# Altium footprint library STM32F4DISCOHEADER.PcbLib: 1 footprints
Each footprint in its own frame and in the unit in brackets; x right, y up, seen from the top. Pads: shape width x height; smd on the part's side, far side on the other; paste and mask are expansions set on the pad; w line width, h text height; cw(c..) or ccw(c..) is an arc to the next point about the centre after c.
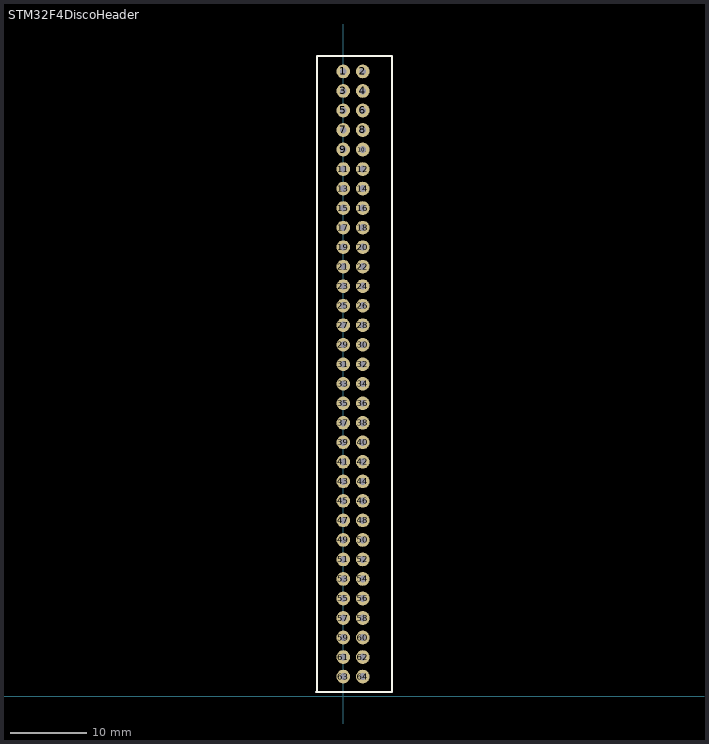
[diagram p0: the footprint, top view; thin cyan lines are the x and y axes]

## STM32F4DiscoHeader [mil]
pads (64):
  round 70 hole 35.4: 1(0,3200) 2(100,3200) 3(0,3100) 4(100,3100) 5(0,3000) 6(100,3000) 7(0,2900) 8(100,2900) 9(0,2800) 10.(100,2800) 11(0,2700) 12(100,2700) 13(0,2600) 14(100,2600) 15(0,2500) 16(100,2500) 17(0,2400) 18(100,2400) 19(0,2300) 20(100,2300) 21(0,2200) 22(100,2200) 23(0,2100) 24(100,2100) 25(0,2000) 26(100,2000) 27(0,1900) 28(100,1900) 29(0,1800) 30(100,1800) 31(0,1700) 32(100,1700) 33(0,1600) 34(100,1600) 35(0,1500) 36(100,1500) 37(0,1400) 38(100,1400) 39(0,1300) 40(100,1300) 41(0,1200) 42(100,1200) 43(0,1100) 44(100,1100) 45(0,1000) 46(100,1000) 47(0,900) 48(100,900) 49(0,800) 50(100,800) 51(0,700) 52(100,700) 53(0,600) 54(100,600) 55(0,500) 56(100,500) 57(0,400) 58(100,400) 59(0,300) 60(100,300) 61(0,200) 62(100,200) 63(0,100) 64(100,100)
Top Overlay:
  lines w10: -140,20 250,20 250,3280 -135,3280 -135,25 -140,20